# Altium footprint library TO_THD.PCBLIB: 49 footprints (part 2 of 4)
Each footprint in its own frame and in the unit in brackets; x right, y up, seen from the top. Pads: shape width x height; smd on the part's side, far side on the other; paste and mask are expansions set on the pad; w line width, h text height; cw(c..) or ccw(c..) is an arc to the next point about the centre after c.
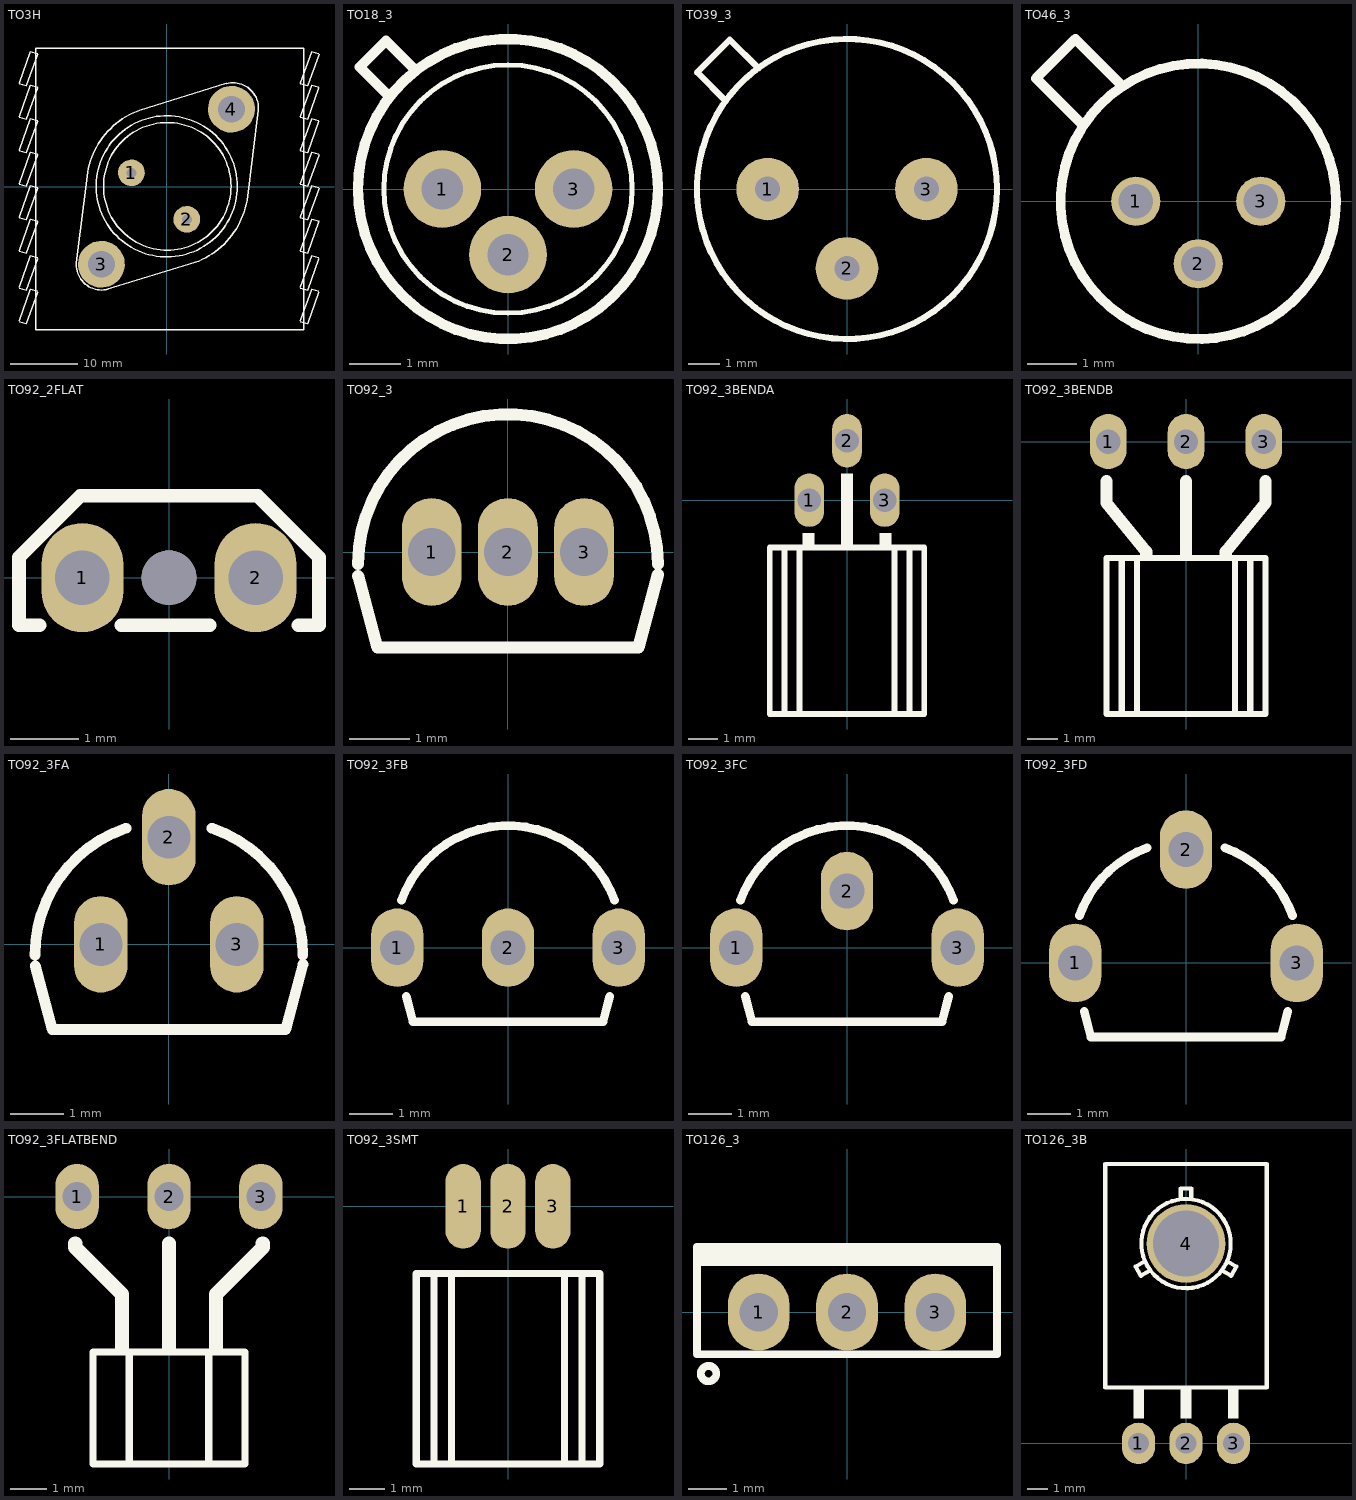
[diagram p1: the footprints below, top view; thin cyan lines are the x and y axes]

## TO3H [mm] "TO-3 WITH HEATSINK"
pads (4):
  round 4 hole 1.5: 1(-5.278,2.107) 2(2.992,-4.831)
  round 7 hole 4: 3(-9.763,-11.536) 4(9.666,11.618)
TopOverlay:
  circle w0.2: c0.082,0.097 r9.525
  circle w0.2: c0,0.099 r10.541
  lines w0.2: -13.523,-11.316 -11.822,2.211 ; -13.51,-11.245 ccw(c-9.714,-11.577) -12.163,-14.496 ccw(c-9.714,-11.577) -8.728,-15.257 ; -11.825,2.197 cw(c0.082,0.097) -9.18,7.869 cw(c0.082,0.097) -4.053,11.458 ; -8.938,-15.295 4.23,-11.259 ; -4.067,11.453 8.887,15.471 ; 4.217,-11.264 ccw(c0.082,0.097) 9.343,-7.674 ccw(c0.082,0.097) 11.988,-2.002 ; 8.892,15.452 cw(c9.878,11.772) 12.327,14.69 cw(c9.878,11.772) 13.673,11.44 ; 11.985,-2.016 13.674,11.455
  lines w0.203: -22.064,-20.101 -20.964,-20.401 -19.262,-15.702 ; -22.064,-20.002 -20.362,-15.3 -19.262,-15.603 ; -22.064,-15.102 -20.964,-15.402 -19.262,-10.7 ; -22.064,-15.001 -20.362,-10.302 -19.262,-10.601 ; -22.064,-9.601 -20.964,-9.9 -19.262,-5.201 ; -22.064,-9.502 -20.362,-4.803 -19.262,-5.102 ; -22.064,-4.602 -20.964,-4.902 -19.262,-0.203 ; -22.064,-4.5 -20.362,0.199 -19.262,-0.101 ; -22.064,0.399 -20.964,0.1 -19.262,4.799 ; -22.064,0.498 -20.362,5.197 -19.262,4.898 ; -22.064,5.398 -20.964,5.098 -19.262,9.797 ; -22.064,5.5 -20.362,10.199 -19.262,9.899 ; -22.064,10.399 -20.964,10.1 -19.262,14.799 ; -22.064,10.498 -20.362,15.197 -19.262,14.898 ; -22.064,15.398 -20.964,15.098 -19.262,19.797 ; -22.064,15.5 -20.362,20.199 -19.262,19.899 ; 19.938,-20.101 21.038,-20.401 22.737,-15.702 ; 19.938,-20.002 21.637,-15.3 22.737,-15.603 ; 19.938,-15.102 21.038,-15.402 22.737,-10.7 ; 19.938,-15.001 21.637,-10.302 22.737,-10.601 ; 19.938,-9.601 21.038,-9.9 22.737,-5.201 ; 19.938,-9.501 21.637,-4.803 22.737,-5.102 ; 19.938,-4.602 21.038,-4.902 22.737,-0.203 ; 19.938,-4.5 21.637,0.199 22.737,-0.101 ; 19.938,0.399 21.038,0.1 22.737,4.799 ; 19.938,0.498 21.637,5.197 22.737,4.898 ; 19.938,5.398 21.038,5.098 22.737,9.797 ; 19.938,5.5 21.637,10.199 22.737,9.899 ; 19.938,10.399 21.038,10.1 22.737,14.799 ; 19.938,10.498 21.637,15.197 22.737,14.898 ; 19.938,15.398 21.038,15.098 22.737,19.797 ; 19.938,15.5 21.637,20.199 22.737,19.899 ; -19.564,-21.302 20.438,-21.302 20.438,20.699 -19.564,20.699 -19.564,-21.302
3D body "User Library-TO-3_Long.STEP": height 10.5, standoff -10, extent -22.689,-23.497 22.813,23.658
3D body "SW3dPS-Heat Sink.STEP": height 31.65, standoff 1, extent -18.572,-21.195 19.428,20.805

## TO18_3 [mm] "TO18, TO-206AA, TO52, TO46, DIA: 5.5mm"
pads (3):
  round 1.5 hole 0.8: 1(-1.27,0) 2(0,-1.27) 3(1.27,0)
TopOverlay:
  circle w0.1: c0,0 r2.4
  circle w0.2: c0,0 r2.9
  lines w0.2: -2.359,1.851 -2.867,2.359 -2.359,2.867 -1.851,2.359
3D body "User Library-TO-18 (KT-1).STEP": height 6.2, standoff -2.5, extent -3.031,-2.8 2.8,3.037

## TO39_3 [mm]
pads (3):
  round 2 hole 0.8: 1(-2.54,0) 2(0,-2.54) 3(2.54,0)
TopOverlay:
  circle w0.2: c0,0 r4.8
  lines w0.203: -3.883,2.817 -4.797,3.73 -3.747,4.78 -2.833,3.867
3D body "User Library-TO-39_TO-205AD.STEP": height 6.6, standoff -11.82, extent -4.706,-4.701 4.685,4.699

## TO46_3 [mm] "TO-46-3, TO-206AB"
height 2.7
pads (3):
  round 1 / inner round 1 / far side oval 1.1x1.5 hole 0.7: 1(-1.27,0) 2(0,-1.27) 3(1.27,0)
TopOverlay:
  circle w0.2: c0,0 r2.8
  lines w0.203: -2.35,1.55 -3.3,2.5 -2.5,3.3 -1.55,2.35
3D body "TO-46-3PIN.step": height 2.67, standoff -5.66, extent -3.155,-2.771 2.783,3.155

## TO92_2FLAT [mm] "TO-92 LPG"
pads (3):
  oval 1.2x1.6 hole 0.8 mask+0.1: 1(-1.27,0) 2(1.27,0)
  round 0.8 hole 0.8 unplated mask+0.1: ""(0,0)
TopOverlay:
  lines w0.2: -1.9,-0.7 -2.2,-0.7 -2.2,0.3 -1.3,1.2 1.3,1.2 2.2,0.3 2.2,-0.7 1.9,-0.7 ; -0.7,-0.7 0.6,-0.7
3D body "User Library-TI_LPG0002A_TO-92_Temp_Sensor.step": height 5.55, standoff -2.54, extent -2.05,-0.55 2.05,1.07

## TO92_3 [mm] "TO-92, SOT54"
pads (3):
  oval 1x1.8 hole 0.8 mask+0.1: 1(-1.27,0) 2(0,0) 3(1.27,0)
TopOverlay:
  lines w0.2: -2.5,-0.2 cw(c0,-0.2) 2.5,-0.2 ; -2.497,-0.399 -2.178,-1.589 2.178,-1.589 2.504,-0.374
3D body "User Library-KSP92 Transistors PNP TO-92 3L (2,54mm).step": height 7.82, standoff -11.7, extent -2.38,-1.45 2.38,2.18

## TO92_3BENDA [mm] "TO-92 Bended, SOT54"
pads (3):
  oval 1x1.8 hole 0.8 mask+0.1: 1(-1.27,0) 2(0,2) 3(1.27,0)
TopOverlay:
  rectangle: -0.2,-1.6 0.2,0.9
  region: 1.5,-1.1 1.1,-1.1 1.1,-1.6 1.5,-1.6
  rectangle: -1.5,-1.6 -1.1,-1.1
  lines w0.2: -2.1,-7.2 -2.1,-1.6 ; -1.6,-7.2 -1.6,-1.6 ; 1.6,-7.2 1.6,-1.6 ; 2.1,-7.2 2.1,-1.6 ; -2.6,-7.2 2.6,-7.2 2.6,-1.6 -2.6,-1.6 -2.6,-7.2
3D body "TO-92_triangle_pin_right_angle.stp": height 4.5, standoff -3, extent -2.508,-7.125 2.508,2.3

## TO92_3BENDB [mm] "TO-92 Bended, SOT54"
pads (3):
  oval 1.2x1.8 hole 0.8: 1(-2.54,0) 2(0,0) 3(2.54,0)
TopOverlay:
  lines w0.2: -2.1,-8.9 -2.1,-3.8 ; -1.6,-8.9 -1.6,-3.8 ; 1.6,-8.9 1.6,-3.8 ; 2.1,-8.9 2.1,-3.8 ; -2.6,-8.9 -2.6,-3.8 2.6,-3.8 2.6,-8.9 -2.6,-8.9
  lines w0.4: -2.6,-1.3 -2.6,-2 -1.3,-3.6 -1.3,-3.7 ; 0,-3.7 0,-1.3 ; 1.3,-3.7 1.3,-3.6 2.6,-2 2.6,-1.3
3D body: height 1.55, standoff 1.15, extent -0.2,-3.9 0.2,0.1
3D body "TO-92-2_Wide_Horizontal_FlatSideDown.step": height 3.74, standoff -4.16, extent -2.81,-8.79 2.81,0.2
3D body: height 1.55, standoff -3, extent -0.2,-0.1 0.2,0.3

## TO92_3FA [mm] "TO-92 formed leads, SOT54"
pads (3):
  oval 1x1.8 hole 0.8 mask+0.1: 1(-1.27,0) 2(0,2) 3(1.27,0)
TopOverlay:
  lines w0.2: -2.5,-0.2 cw(c0,-0.2) -0.8,2.169 ; -2.497,-0.399 -2.178,-1.589 2.178,-1.589 2.504,-0.374 ; 0.8,2.169 cw(c0,-0.2) 2.5,-0.2
3D body "TO-92_triangle_pin.stp": height 8.2, standoff -3, extent -2.508,-1.35 2.508,3.001

## TO92_3FB [mm] "TO-92 formed leads, TO-226, SOT54A"
pads (3):
  oval 1.2x1.8 hole 0.8: 1(-2.54,0) 2(0,0) 3(2.54,0)
TopOverlay:
  lines w0.2: -2.443,1.089 cw(c0,0.2) 2.443,1.089 ; -2.337,-1.11 -2.178,-1.7 2.178,-1.7 2.337,-1.11
3D body "TO-92_line_pin_2_5mm_pitch.stp": height 8.2, standoff -3, extent -2.75,-1.85 2.75,2.501

## TO92_3FC [mm] "TO-92 formed leads, TO-226"
pads (3):
  oval 1.2x1.8 hole 0.8: 1(-2.54,0) 2(0,1.3) 3(2.54,0)
TopOverlay:
  lines w0.2: -2.443,1.089 cw(c0,0.2) 2.443,1.089 ; -2.337,-1.11 -2.178,-1.7 2.178,-1.7 2.337,-1.11
3D body "ALSRobot-TO-92B.step": height 7.34, standoff -0.7, extent -2.84,-1.4 2.84,2.4

## TO92_3FD [mm] "TO-92 formed leads, TO-226"
pads (3):
  oval 1.2x1.8 hole 0.8: 1(-2.54,0) 2(0,2.6) 3(2.54,0)
TopOverlay:
  lines w0.2: -2.443,1.089 cw(c0,0.2) -0.889,2.643 ; -2.337,-1.11 -2.178,-1.7 2.178,-1.7 2.337,-1.11 ; 0.889,2.643 cw(c0,0.2) 2.443,1.089
3D body "User Library-TO-92D.step": height 8, standoff -3.02, extent -2.787,-1.53 2.787,2.81

## TO92_3FLATBEND [mm] "TO-92 Bended, SOT54"
pads (3):
  oval 1.2x1.8 hole 0.8: 1(-2.54,0) 2(0,0) 3(2.54,0)
TopOverlay:
  lines w0.2: -1.1,-7.3 -1.1,-4.3 ; 1.1,-7.3 1.1,-4.3 ; -2.1,-7.4 2.1,-7.4 2.1,-4.3 -2.1,-4.3 -2.1,-7.4
  lines w0.4: -2.6,-1.3 -2.6,-1.4 -1.3,-2.7 -1.3,-4.2 ; 0,-4.2 0,-1.3 ; 1.3,-4.2 1.3,-2.7 2.6,-1.4 2.6,-1.3
3D body "TO-92 flat Formed Leads Horizontal Back.stp": height 1.58, standoff -3.69, extent -2.73,-7.291 2.73,0.4

## TO92_3SMT [mm] "TO-92 Surface Mounted"
height 7.62
pads (3):
  oval 1x2.4 smd mask+0.1: 1(-1.27,0) 2(0,0) 3(1.27,0)
TopOverlay:
  lines w0.2: -2.1,-7.3 -2.1,-1.9 ; -1.6,-7.3 -1.6,-1.9 ; 1.6,-7.3 1.6,-1.9 ; 2.1,-7.3 2.1,-1.9 ; -2.6,-7.3 -2.6,-1.9 2.6,-1.9 2.6,-7.3 -2.6,-7.3
3D body: height 1.8, standoff 0.2, extent 1.07,-2 1.47,1.1
3D body: height 1.8, standoff 0.2, extent -1.47,-2 -1.07,1.1
3D body: height 1.8, standoff 0.2, extent -0.2,-2 0.2,1.1
3D body "TO-92head.step": height 4.41, standoff 0.05, extent -2.524,-7.2 2.5,-2

## TO126_3 [mm] "TO126, TO-126, SOT32 (PHIPLIPS), pitch: 2.3mm, 8X3mm"
pads (3):
  oval 1.6x2 hole 1: 1(-2.3,0) 2(0,0) 3(2.3,0)
TopOverlay:
  circle w0.2: c-3.6,-1.6 r0.2
  rectangle: -3.9,1.2 3.9,1.7
  lines w0.2: -3.9,-1.1 3.9,-1.1 3.9,1.7 -3.9,1.7 -3.9,-1.1
3D body "User Library-TO-126 (SOT32) Gold PCB.STEP": height 13.19, standoff -3.54, extent -3.8,-1 3.8,1.55

## TO126_3B [mm] "TO126, TO-126, SOT32 (PHIPLIPS), BEND pitch: 2.3mm, 8X3mm"
pads (4):
  oval 1.6x2 hole 1: 1(-2.3,0) 2(0,0) 3(2.3,0)
  round 3.81 hole 3.2: 4(0,9.652)
TopOverlay:
  circle w0.2: c0,9.652 r2.159
  rectangle: -2.54,1.2 -2.032,2.64
  rectangle: -0.254,1.2 0.254,2.64
  rectangle: 2.032,1.2 2.54,2.64
  lines w0.2: -1.997,8.792 -2.437,8.538 -2.183,8.099 -1.743,8.353 ; -0.254,11.811 -0.254,12.319 0.254,12.319 0.254,11.811 ; 1.743,8.353 2.183,8.099 2.437,8.538 1.997,8.792 ; -3.9,2.7 3.9,2.7 3.9,13.5 -3.9,13.5 -3.9,2.7
3D body "User Library-TO-126 (SOT32) Gold PCB.STEP": height 2.5, standoff -0.05, extent -3.8,-3.34 3.8,13.39